# EAGLE library part SIM800L (library Nick Firmani)
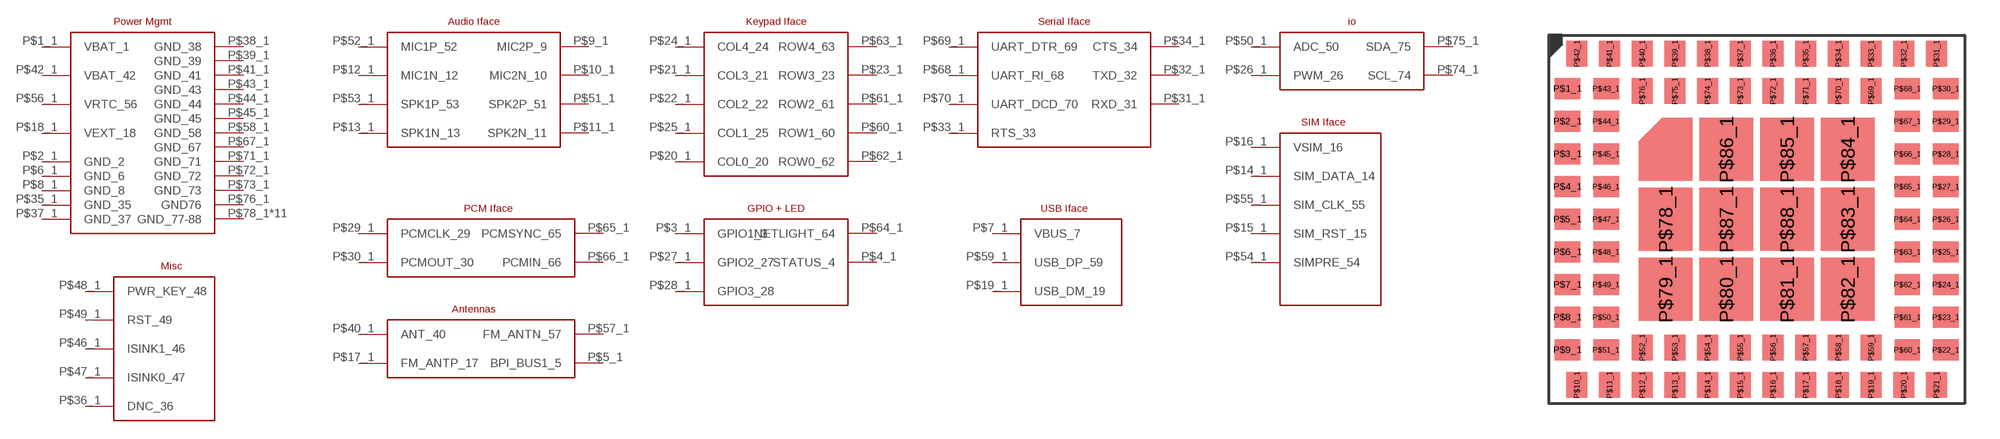
[diagram p6: symbol with the pads of SIM800L; footprint SIM800L]

Designator prefix -

## SIM800L  [SIM800L]
P$1_1  VBAT_1
P$2_1  GND_2
P$3_1  GPIO1_3
P$4_1  STATUS_4
P$5_1  BPI_BUS1_5
P$6_1  GND_6
P$7_1  VBUS_7
P$8_1  GND_8
P$9_1  MIC2P_9
P$10_1  MIC2N_10
P$11_1  SPK2N_11
P$12_1  MIC1N_12
P$13_1  SPK1N_13
P$14_1  SIM_DATA_14
P$15_1  SIM_RST_15
P$16_1  VSIM_16
P$17_1  FM_ANTP_17
P$18_1  VEXT_18
P$19_1  USB_DM_19
P$20_1  COL0_20
P$21_1  COL3_21
P$22_1  COL2_22
P$23_1  ROW3_23
P$24_1  COL4_24
P$25_1  COL1_25
P$26_1  PWM_26
P$27_1  GPIO2_27
P$28_1  GPIO3_28
P$29_1  PCMCLK_29
P$30_1  PCMOUT_30
P$31_1  RXD_31
P$32_1  TXD_32
P$33_1  RTS_33
P$34_1  CTS_34
P$35_1  GND_35
P$36_1  DNC_36
P$37_1  GND_37
P$38_1  GND_38
P$39_1  GND_39
P$40_1  ANT_40
P$41_1  GND_41
P$42_1  VBAT_42
P$43_1  GND_43
P$44_1  GND_44
P$45_1  GND_45
P$46_1  ISINK1_46
P$47_1  ISINK0_47
P$48_1  PWR_KEY_48
P$49_1  RST_49
P$50_1  ADC_50
P$51_1  SPK2P_51
P$52_1  MIC1P_52
P$53_1  SPK1P_53
P$54_1  SIMPRE_54
P$55_1  SIM_CLK_55
P$56_1  VRTC_56
P$57_1  FM_ANTN_57
P$58_1  GND_58
P$59_1  USB_DP_59
P$60_1  ROW1_60
P$61_1  ROW2_61
P$62_1  ROW0_62
P$63_1  ROW4_63
P$64_1  NETLIGHT_64
P$65_1  PCMSYNC_65
P$66_1  PCMIN_66
P$67_1  GND_67
P$68_1  UART_RI_68
P$69_1  UART_DTR_69
P$70_1  UART_DCD_70
P$71_1  GND_71
P$72_1  GND_72
P$73_1  GND_73
P$74_1  SCL_74
P$75_1  SDA_75
P$76_1  GND76
P$78_1  GND_77-88
P$79_1  GND_77-88
P$80_1  GND_77-88
P$81_1  GND_77-88
P$82_1  GND_77-88
P$83_1  GND_77-88
P$84_1  GND_77-88
P$85_1  GND_77-88
P$86_1  GND_77-88
P$87_1  GND_77-88
P$88_1  GND_77-88

## Footprint SIM800L (pad centres in mm)
smd 1.1 x 0.9: P$1_1 -8.1,5.6; P$2_1 -8.1,4.2; P$3_1 -8.1,2.8; P$4_1 -8.1,1.4; P$5_1 -8.1,0; P$6_1 -8.1,-1.4; P$7_1 -8.1,-2.8; P$8_1 -8.1,-4.2; P$9_1 -8.1,-5.6; P$22_1 8.1,-5.6; P$23_1 8.1,-4.2; P$24_1 8.1,-2.8; P$25_1 8.1,-1.4; P$26_1 8.1,0; P$27_1 8.1,1.4; P$28_1 8.1,2.8; P$29_1 8.1,4.2; P$30_1 8.1,5.6; P$43_1 -6.45,5.6; P$44_1 -6.45,4.2; P$45_1 -6.45,2.8; P$46_1 -6.45,1.4; P$47_1 -6.45,0; P$48_1 -6.45,-1.4; P$49_1 -6.45,-2.8; P$50_1 -6.45,-4.2; P$51_1 -6.45,-5.6; P$60_1 6.45,-5.6; P$61_1 6.45,-4.2; P$62_1 6.45,-2.8; P$63_1 6.45,-1.4; P$64_1 6.45,0; P$65_1 6.45,1.4; P$66_1 6.45,2.8; P$67_1 6.45,4.2; P$68_1 6.45,5.6
smd 0.9 x 1.1: P$10_1 -7.7,-7.1; P$11_1 -6.3,-7.1; P$12_1 -4.9,-7.1; P$13_1 -3.5,-7.1; P$14_1 -2.1,-7.1; P$15_1 -0.7,-7.1; P$16_1 0.7,-7.1; P$17_1 2.1,-7.1; P$18_1 3.5,-7.1; P$19_1 4.9,-7.1; P$20_1 6.3,-7.1; P$21_1 7.7,-7.1; P$31_1 7.7,7.1; P$32_1 6.3,7.1; P$33_1 4.9,7.1; P$34_1 3.5,7.1; P$35_1 2.1,7.1; P$36_1 0.7,7.1; P$37_1 -0.7,7.1; P$38_1 -2.1,7.1; P$39_1 -3.5,7.1; P$40_1 -4.9,7.1; P$41_1 -6.3,7.1; P$42_1 -7.7,7.1; P$52_1 -4.9,-5.5; P$53_1 -3.5,-5.5; P$54_1 -2.1,-5.5; P$55_1 -0.7,-5.5; P$56_1 0.7,-5.5; P$57_1 2.1,-5.5; P$58_1 3.5,-5.5; P$59_1 4.9,-5.5; P$69_1 4.9,5.5; P$70_1 3.5,5.5; P$71_1 2.1,5.5; P$72_1 0.7,5.5; P$73_1 -0.7,5.5; P$74_1 -2.1,5.5; P$75_1 -3.5,5.5; P$76_1 -4.9,5.5
smd 2.3 x 2.7: P$78_1 -3.9,0; P$79_1 -3.9,-3; P$80_1 -1.3,-3; P$81_1 1.3,-3; P$82_1 3.9,-3; P$83_1 3.9,0; P$84_1 3.9,3; P$85_1 1.3,3; P$86_1 -1.3,3; P$87_1 -1.3,0; P$88_1 1.3,0